# Altium footprint library Inductor_THT.PcbLib: 269 footprints (part 10 of 17)
Each footprint in its own frame and in the unit in brackets; x right, y up, seen from the top. Pads: shape width x height; smd on the part's side, far side on the other; paste and mask are expansions set on the pad; w line width, h text height; cw(c..) or ccw(c..) is an arc to the next point about the centre after c.
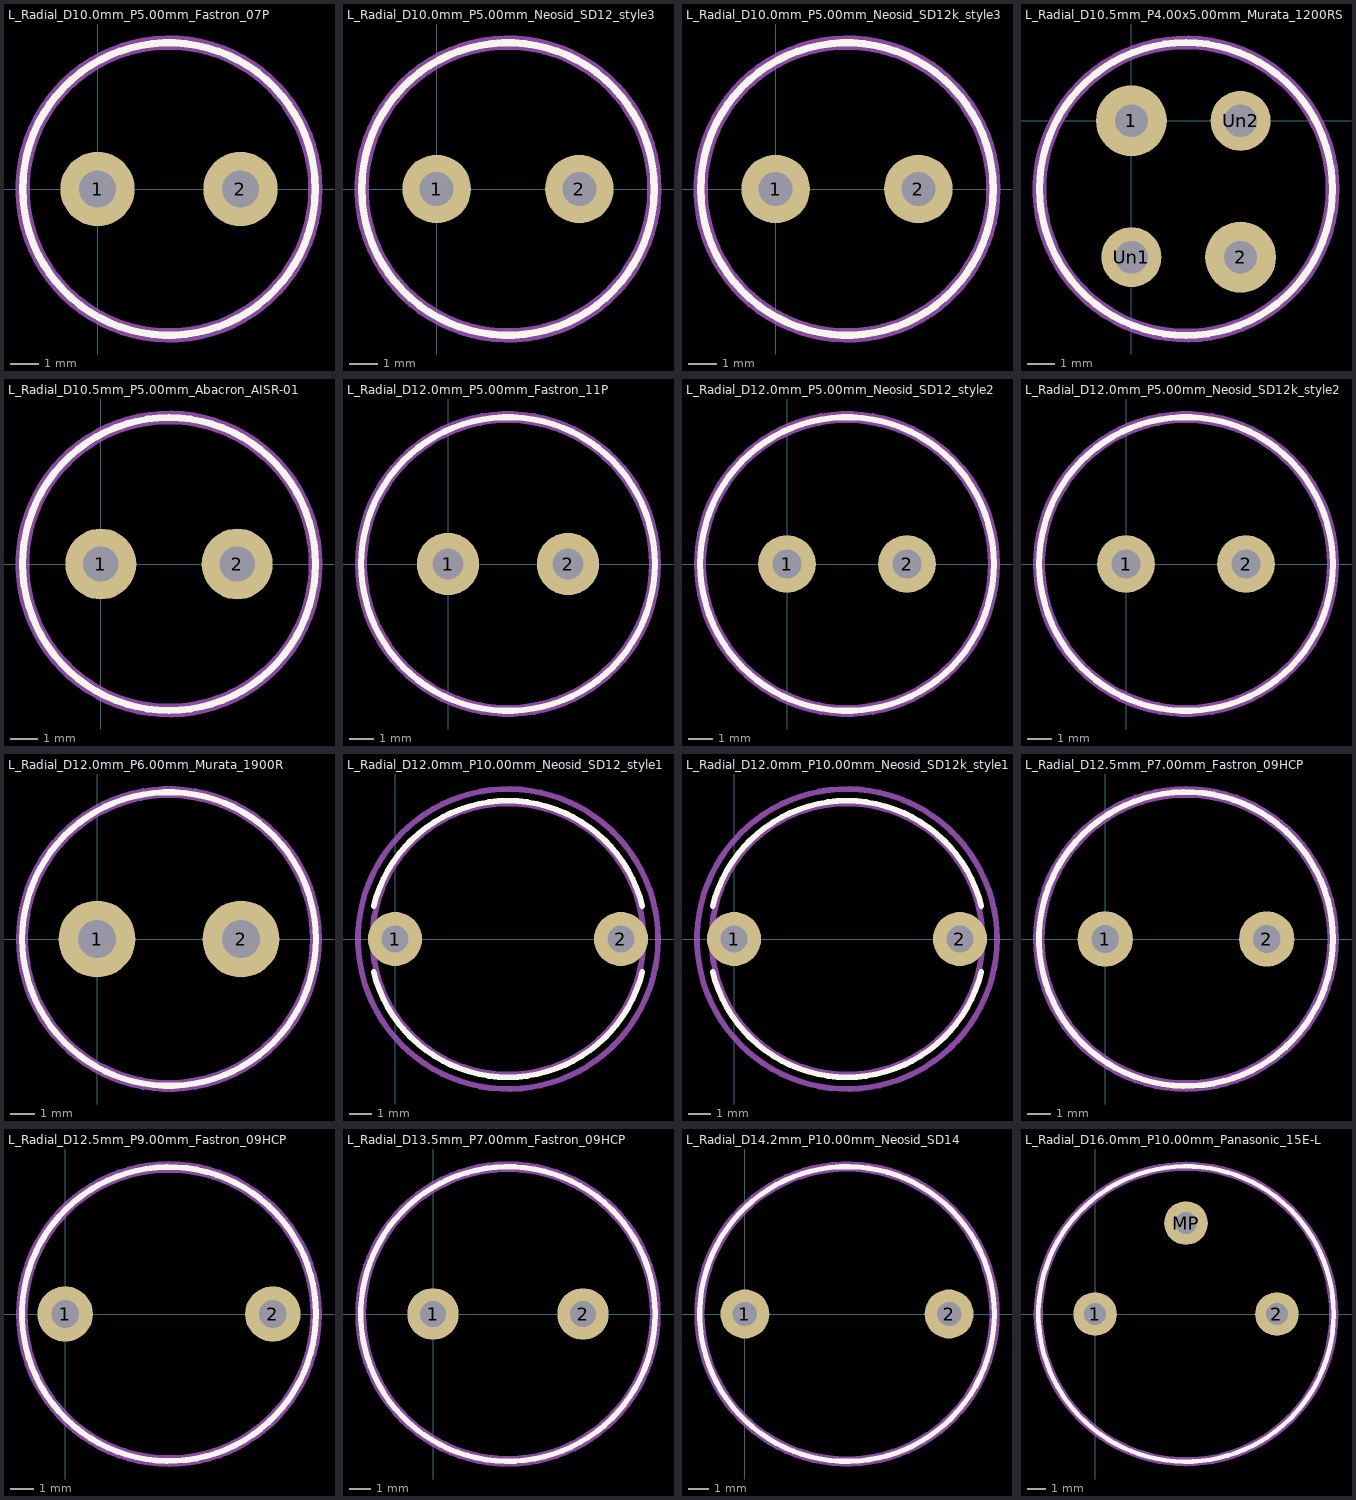
[diagram p9: the footprints below, top view; thin cyan lines are the x and y axes]

## L_Radial_D10.0mm_P5.00mm_Fastron_07P [mm]
pads (2):
  round 2.6 hole 1.3: 1(0,0) 2(5,0)
F.SilkS:
  circle w0.254: c2.5,0 r5.12
Top Assembly:
  circle w0.254: c2.5,0 r5
  text "'.Designator'" at -1.547,-0.84 h1
Top Courtyard:
  circle w0.254: c2.5,0 r5.25
Top Designator:
  text ".Designator" at -5.118,-0.508 h1.52
3D body "L_Radial_D10.0mm_P5.00mm_Fastron_07P.step": height 12.55, standoff -3, extent -2.5,-5 7.5,5

## L_Radial_D10.0mm_P5.00mm_Neosid_SD12_style3 [mm]
pads (2):
  round 2.4 hole 1.2: 1(0,0) 2(5,0)
F.SilkS:
  circle w0.254: c2.5,0 r5.12
Top Assembly:
  circle w0.254: c2.5,0 r5
  text "'.Designator'" at -1.547,-0.84 h1
Top Courtyard:
  circle w0.254: c2.5,0 r5.25
Top Designator:
  text ".Designator" at -5.118,-0.508 h1.52
3D body "L_Radial_D10.0mm_P5.00mm_Neosid_SD12_style3.step": height 19.6, standoff -3, extent -2.5,-5 7.5,5

## L_Radial_D10.0mm_P5.00mm_Neosid_SD12k_style3 [mm]
pads (2):
  round 2.4 hole 1.2: 1(0,0) 2(5,0)
F.SilkS:
  circle w0.254: c2.5,0 r5.12
Top Assembly:
  circle w0.254: c2.5,0 r5
  text "'.Designator'" at -1.547,-0.84 h1
Top Courtyard:
  circle w0.254: c2.5,0 r5.25
Top Designator:
  text ".Designator" at -5.118,-0.508 h1.52
3D body "L_Radial_D10.0mm_P5.00mm_Neosid_SD12k_style3.step": height 12.6, standoff -3, extent -2.5,-5 7.5,5

## L_Radial_D10.5mm_P4.00x5.00mm_Murata_1200RS [mm]
pads (4):
  round 2.6 hole 1.2: 1(0,0) 2(4,-5)
  round 2.2 hole 1.2: Un1(0,-5) Un2(4,0)
F.SilkS:
  circle w0.254: c2,-2.5 r5.37
Top Assembly:
  circle w0.254: c2,-2.5 r5.25
  text "'.Designator'" at -2.047,-3.34 h1
Top Courtyard:
  circle w0.254: c2,-2.5 r5.5
Top Designator:
  text ".Designator" at -5.618,-3.008 h1.52

## L_Radial_D10.5mm_P5.00mm_Abacron_AISR-01 [mm]
pads (2):
  round 2.6 hole 1.3: 1(0,0) 2(5,0)
F.SilkS:
  circle w0.254: c2.5,0 r5.37
Top Assembly:
  circle w0.254: c2.5,0 r5.25
  text "'.Designator'" at -1.547,-0.84 h1
Top Courtyard:
  circle w0.254: c2.5,0 r5.5
Top Designator:
  text ".Designator" at -5.118,-0.508 h1.52
3D body "L_Radial_D10.5mm_P5.00mm_Abacron_AISR-01.step": height 10.6, standoff -3, extent -2.75,-5.247 7.75,5.247

## L_Radial_D12.0mm_P5.00mm_Fastron_11P [mm]
pads (2):
  round 2.6 hole 1.3: 1(0,0) 2(5,0)
F.SilkS:
  circle w0.254: c2.5,0 r6.12
Top Assembly:
  circle w0.254: c2.5,0 r6
  text "'.Designator'" at -1.547,-0.84 h1
Top Courtyard:
  circle w0.254: c2.5,0 r6.25
Top Designator:
  text ".Designator" at -5.118,-0.508 h1.52
3D body "L_Radial_D12.0mm_P5.00mm_Fastron_11P.step": height 16.1, standoff -3, extent -3.5,-6 8.5,6

## L_Radial_D12.0mm_P5.00mm_Neosid_SD12_style2 [mm]
pads (2):
  round 2.4 hole 1.2: 1(0,0) 2(5,0)
F.SilkS:
  circle w0.254: c2.5,0 r6.12
Top Assembly:
  circle w0.254: c2.5,0 r6
  text "'.Designator'" at -1.547,-0.84 h1
Top Courtyard:
  circle w0.254: c2.5,0 r6.25
Top Designator:
  text ".Designator" at -5.118,-0.508 h1.52
3D body "L_Radial_D12.0mm_P5.00mm_Neosid_SD12_style2.step": height 20.1, standoff -3, extent -3.5,-6 8.5,6

## L_Radial_D12.0mm_P5.00mm_Neosid_SD12k_style2 [mm]
pads (2):
  round 2.4 hole 1.2: 1(0,0) 2(5,0)
F.SilkS:
  circle w0.254: c2.5,0 r6.12
Top Assembly:
  circle w0.254: c2.5,0 r6
  text "'.Designator'" at -1.547,-0.84 h1
Top Courtyard:
  circle w0.254: c2.5,0 r6.25
Top Designator:
  text ".Designator" at -5.118,-0.508 h1.52
3D body "L_Radial_D12.0mm_P5.00mm_Neosid_SD12k_style2.step": height 13.1, standoff -3, extent -3.5,-6 8.5,6

## L_Radial_D12.0mm_P6.00mm_Murata_1900R [mm]
pads (2):
  round 3.2 hole 1.6: 1(0,0) 2(6,0)
F.SilkS:
  circle w0.254: c3,0 r6.12
Top Assembly:
  circle w0.254: c3,0 r6
  text "'.Designator'" at -1.047,-0.84 h1
Top Courtyard:
  circle w0.254: c3,0 r6.25
Top Designator:
  text ".Designator" at -4.618,-0.508 h1.52
3D body "L_Radial_D12.0mm_P6.00mm_Murata_1900R.step": height 21.1, standoff -3, extent -3,-6 9,6

## L_Radial_D12.0mm_P10.00mm_Neosid_SD12_style1 [mm]
pads (2):
  round 2.4 hole 1.2: 1(0,0) 2(10,0)
F.SilkS:
  lines w0.254: -0.943,-1.46 ccw(c5,0) 10.943,-1.46 ; -0.943,1.46 cw(c5,0) 10.943,1.46
Top Assembly:
  circle w0.254: c5,0 r6
  text "'.Designator'" at 0.953,-0.84 h1
Top Courtyard:
  circle w0.254: c5,0 r6.64
Top Designator:
  text ".Designator" at -2.618,-0.508 h1.52
3D body "L_Radial_D12.0mm_P10.00mm_Neosid_SD12_style1.step": height 20.1, standoff -3, extent -1,-6 11,6

## L_Radial_D12.0mm_P10.00mm_Neosid_SD12k_style1 [mm]
pads (2):
  round 2.4 hole 1.2: 1(0,0) 2(10,0)
F.SilkS:
  lines w0.254: -0.943,-1.46 ccw(c5,0) 10.943,-1.46 ; -0.943,1.46 cw(c5,0) 10.943,1.46
Top Assembly:
  circle w0.254: c5,0 r6
  text "'.Designator'" at 0.953,-0.84 h1
Top Courtyard:
  circle w0.254: c5,0 r6.64
Top Designator:
  text ".Designator" at -2.618,-0.508 h1.52
3D body "L_Radial_D12.0mm_P10.00mm_Neosid_SD12k_style1.step": height 13.1, standoff -3, extent -1,-6 11,6

## L_Radial_D12.5mm_P7.00mm_Fastron_09HCP [mm]
pads (2):
  round 2.4 hole 1.2: 1(0,0) 2(7,0)
F.SilkS:
  circle w0.254: c3.5,0 r6.37
Top Assembly:
  circle w0.254: c3.5,0 r6.25
  text "'.Designator'" at -0.547,-0.84 h1
Top Courtyard:
  circle w0.254: c3.5,0 r6.5
Top Designator:
  text ".Designator" at -4.118,-0.508 h1.52
3D body "L_Radial_D12.5mm_P7.00mm_Fastron_09HCP.step": height 10.85, standoff -3, extent -2.75,-6.247 9.75,6.247

## L_Radial_D12.5mm_P9.00mm_Fastron_09HCP [mm]
pads (2):
  round 2.4 hole 1.2: 1(0,0) 2(9,0)
F.SilkS:
  circle w0.254: c4.5,0 r6.37
Top Assembly:
  circle w0.254: c4.5,0 r6.25
  text "'.Designator'" at 0.453,-0.84 h1
Top Courtyard:
  circle w0.254: c4.5,0 r6.5
Top Designator:
  text ".Designator" at -3.118,-0.508 h1.52
3D body "L_Radial_D12.5mm_P9.00mm_Fastron_09HCP.step": height 10.85, standoff -3, extent -1.75,-6.247 10.75,6.247

## L_Radial_D13.5mm_P7.00mm_Fastron_09HCP [mm]
pads (2):
  round 2.4 hole 1.2: 1(0,0) 2(7,0)
F.SilkS:
  circle w0.254: c3.5,0 r6.87
Top Assembly:
  circle w0.254: c3.5,0 r6.75
  text "'.Designator'" at -0.547,-0.84 h1
Top Courtyard:
  circle w0.254: c3.5,0 r7
Top Designator:
  text ".Designator" at -4.118,-0.508 h1.52
3D body "L_Radial_D13.5mm_P7.00mm_Fastron_09HCP.step": height 10.85, standoff -3, extent -3.25,-6.747 10.25,6.747

## L_Radial_D14.2mm_P10.00mm_Neosid_SD14 [mm]
pads (2):
  round 2.4 hole 1.2: 1(0,0) 2(10,0)
F.SilkS:
  circle w0.254: c5,0 r7.22
Top Assembly:
  circle w0.254: c5,0 r7.1
  text "'.Designator'" at 0.953,-0.84 h1
Top Courtyard:
  circle w0.254: c5,0 r7.35
Top Designator:
  text ".Designator" at -2.618,-0.508 h1.52
3D body "L_Radial_D14.2mm_P10.00mm_Neosid_SD14.step": height 24.6, standoff -3, extent -2.1,-7.1 12.1,7.1

## L_Radial_D16.0mm_P10.00mm_Panasonic_15E-L [mm]
pads (3):
  round 2.4 hole 1.2: 1(0,0) 2(10,0) MP(5,5)
F.SilkS:
  circle w0.254: c5,0 r8.12
Top Assembly:
  circle w0.254: c5,0 r8
  text "'.Designator'" at 0.953,-0.84 h1
Top Courtyard:
  circle w0.254: c5,0 r8.25
Top Designator:
  text ".Designator" at -2.618,-0.508 h1.52